# Altium integrated library MAX232.IntLib: 4 symbols
Pins are listed as number, name and electrical type; pins without a type are passive.

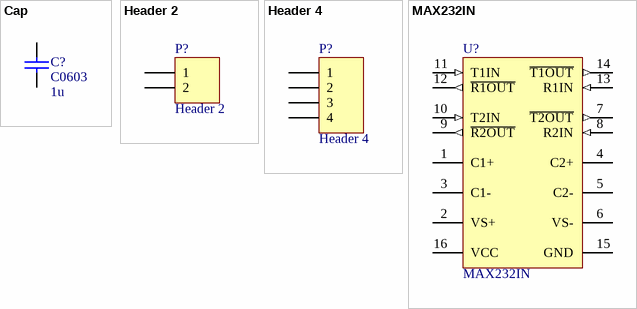
[diagram p0: symbols Cap to MAX232IN]

## Cap
designator C?, comment 1u
Generic capacitor; Value: 1u
footprint C0402 (SMD Capacitor, Inch 0402, Metric 1005.)
footprint C0603 (SMD Capacitor, Inch 0603, Metric 1608.)
footprint C0805 (SMD Capacitor, Inch 0805, Metric 2012.)
footprint C1206 (SMD Capacitor, Inch 1206, Metric 3216.)
footprint C1210 (SMD Capacitor, Inch 1210, Metric 3225.)
footprint Cap 0.2in
pins: 1, 2

## Header 2
designator P?
Header, 2-Pin; LatestRevisionDate: 17-Jul-2002; LatestRevisionNote: Re-released for DXP Platform.; Publisher: Altium Limited
footprint HEADER 1X2 Female (Connector; Header; 2 Position; Straight; Female)
signal-integrity model Connector
footprint HEADER 1X2H Male (Connector; Header; 2 Position; Right Angle; Male)
footprint HEADER 1X2 Male (Connector; Header; 2 Position; Straight; Male)
pins: 1, 2

## Header 4
designator P?
Header, 4-Pin; LatestRevisionDate: 17-Jul-2002; LatestRevisionNote: Re-released for DXP Platform.; Publisher: Altium Limited
footprint HEADER 1X4 FEMALE (Connector; Header; 4 Position; Female)
signal-integrity model Connector
footprint HEADER 1x4 MALE (Connector; Header; 4 Position)
footprint HEADER 1X4H Male (Connector; Header; 4 Position; Right Angle; Male)
pins: 1, 2, 3, 4

## MAX232IN
designator U?
Dual EIA-232 Driver / Receiver, -40 to 85 degC, 16-Pin PDIP (N), Pb-Free (RoHS); SubFamily: RS-232; Drivers Per Package: 2; Supply Voltage(s)(V): 5; ESD HBM(kV): +/-2; ICC(Max)(mA): 10; Single Supply: TRUE; DatasheetVersion: SLLS047L; PackageVersion: revE, Dec-2002; PackageReference: N16; PackageDescription: 16-Pin Plastic Dual-In-Line Package, Row Spacing 7.62 mm, Pitch 2.54 mm; Receivers Per Package: 2; RS-232: TRUE; ComponentLink1Description: Manufacturer URL; ComponentLink1URL: www.ti.com; ComponentLink2Description: Datasheet; ComponentLink2URL: http://www.ti.com/general/docs/lit/getliterature.tsp?genericPartNumber=MAX232&fileType=pdf; ComponentLink3Description: Package Specification; ComponentLink3URL: http://www.ti.com/litv/pdf/mpdi002c
footprint DIP16
pins: 1 C1+, 2 VS+ (power), 3 C1-, 4 C2+, 5 C2-, 6 VS- (power), 7 ~{T2OUT} (out), 8 R2IN (in), 9 ~{R2OUT} (out), 10 T2IN (in), 11 T1IN (in), 12 ~{R1OUT} (out), 13 R1IN (in), 14 ~{T1OUT} (out), 15 GND (power), 16 VCC (power)